# EAGLE library part 39-28-1083 (library Conn - Rect - Headers,Male Pins)
Mini-Fit® Jr. Vertical Header, 4.20mm Pitch, Dual Row, 8 Circuits, without Snap-in Plastic Peg PCB Lock, Tin, Natural 5566 Series Molex
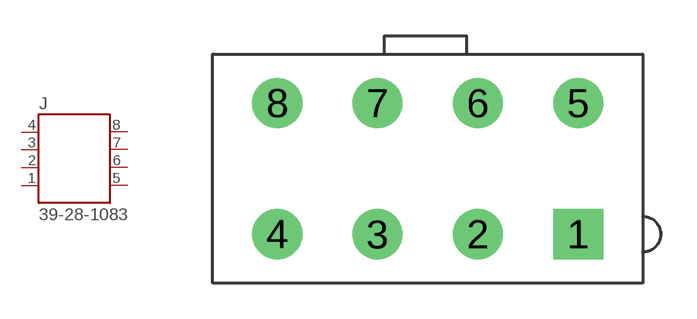
[diagram p1: symbol with the pads of 39-28-1083; footprint 39-28-1083]

Designator prefix J

## 39-28-1083  [39-28-1083]
1  1  pas
2  2  pas
3  3  pas
4  4  pas
5  5  pas
6  6  pas
7  7  pas
8  8  pas

## Footprint 39-28-1083 (pad centres in mm)
drill 1.4 square: 1 6.3,-2.75
drill 1.4: 2 2.1,-2.75; 3 -2.1,-2.75; 4 -6.3,-2.75; 5 6.3,2.75; 6 2.1,2.75; 7 -2.1,2.75; 8 -6.3,2.75